# Altium footprint library Ctrl_FOC.PcbLib: 51 footprints (part 4 of 4)
Each footprint in its own frame and in the unit in brackets; x right, y up, seen from the top. Pads: shape width x height; smd on the part's side, far side on the other; paste and mask are expansions set on the pad; w line width, h text height; cw(c..) or ccw(c..) is an arc to the next point about the centre after c.
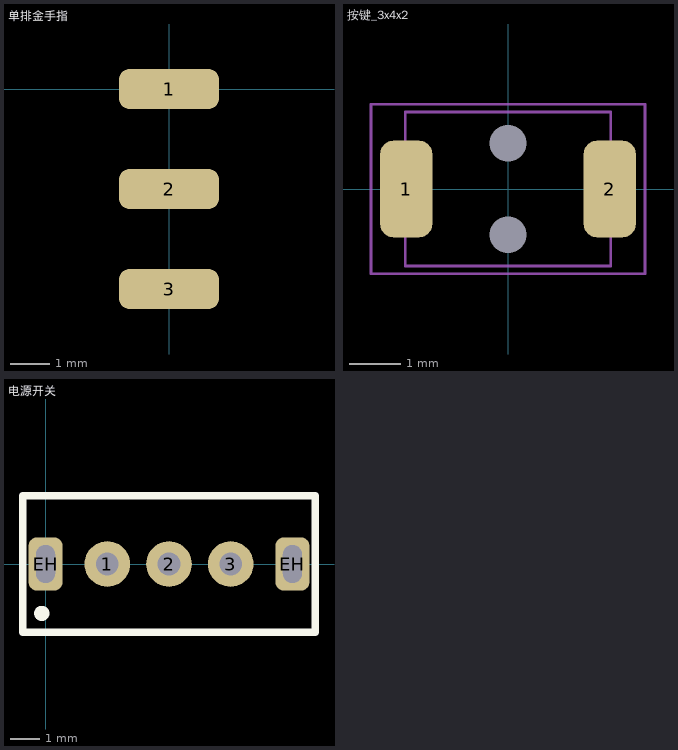
[diagram p3: the footprints below, top view; thin cyan lines are the x and y axes]

## 单排金手指 [mil]
pads (3):
  rrect50% 100x40 smd: 1(0,0) 2(0,-100) 3(0,-200)

## 按键_3x4x2 [mil]
height 78.74
pads (4):
  round 0 hole 28: 0(0,-35) 0(0,35)
  rrect50% 40x74 smd: 1(-78,0) 2(78,0)
Mechanical 13:
  lines w2: -78.74,-59.06 -78.74,59.06 78.74,59.06 78.75,-59.05 -78.73,-59.05
Mechanical 14:
  lines w2: -105,-65 105,-65 105,65 -105,65 -105,-65
3D body "20041.stp": height 62.99, standoff 0, extent -78.73,-49.2 78.75,49.22

## 电源开关 [mil]
pads (5):
  round 60 hole 30: 1(81.25,0) 2(162.5,0) 3(243.75,0)
  rrect50% 45x70 hole 50 slot 25 at 0 deg: EH(0,0) EH(325,0)
Top Overlay:
  circle w10: c-5,-65 r5
  lines w10: -30,-90 355,-90 355,90 -30,90 -30,-90
3D body "User Library-MiniSwitch-2.STEP": height 342.52, standoff -110.24, extent -6.79,-88.58 331.8,88.59